# Altium footprint library Screen.PcbLib: 1 footprints
Each footprint in its own frame and in the unit in brackets; x right, y up, seen from the top. Pads: shape width x height; smd on the part's side, far side on the other; paste and mask are expansions set on the pad; w line width, h text height; cw(c..) or ccw(c..) is an arc to the next point about the centre after c.
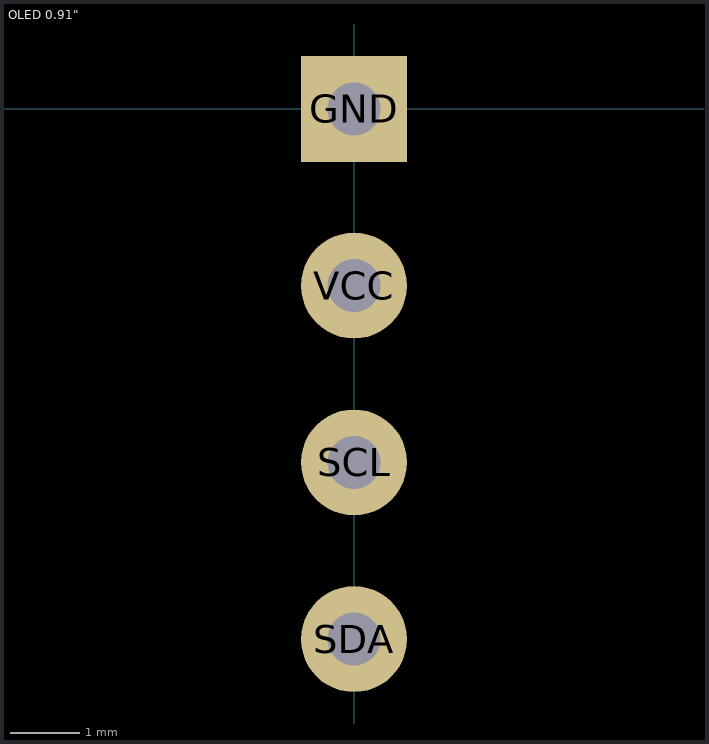
[diagram p0: the footprint, top view; thin cyan lines are the x and y axes]

## OLED 0.91" [mil]
pads (4):
  rect 60x60 hole 30 square: GND(0,0)
  round 60 hole 30: SCL(0,-200) SDA(0,-300) VCC(0,-100)
3D body "OLED 128x32 Display.step": height 218.11, standoff -222.83, extent -1441.06,-386.22 55,86.22